# Altium footprint library INDP130130X73M.PcbLib: 1 footprints
Each footprint in its own frame and in the unit in brackets; x right, y up, seen from the top. Pads: shape width x height; smd on the part's side, far side on the other; paste and mask are expansions set on the pad; w line width, h text height; cw(c..) or ccw(c..) is an arc to the next point about the centre after c.
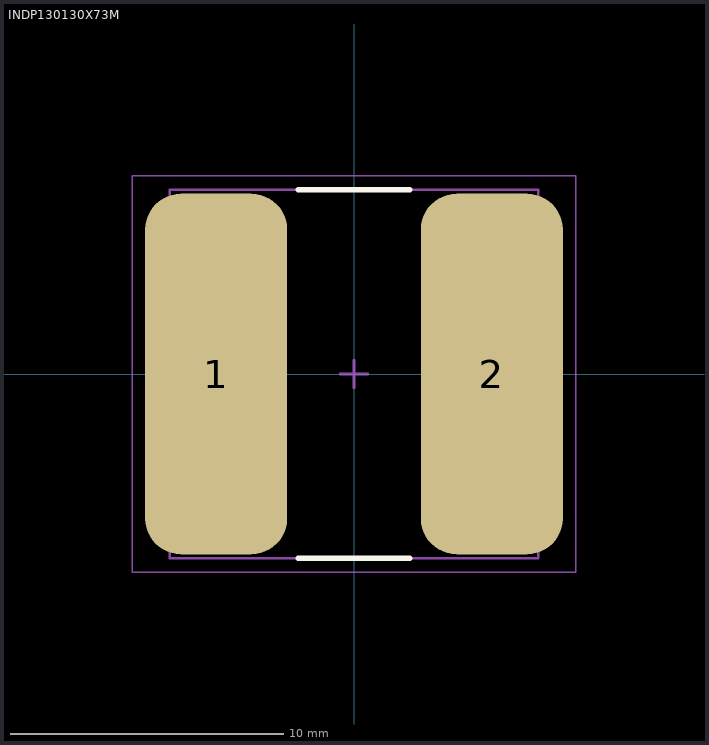
[diagram p0: the footprint, top view; thin cyan lines are the x and y axes]

## INDP130130X73M [mm] "Precision Wire Wound Inductor, 2-Leads, Body 13.00x13.00mm, IPC Low Density"
height 7.3
pads (2):
  rrect50% 5.2x13.2 smd: 1(-5.05,0) 2(5.05,0)
Top Overlay:
  lines w0.2: -2.05,-6.75 2.05,-6.75 ; -2.05,6.75 2.05,6.75
Mechanical 13:
  lines w0.1: -6.75,-6.75 6.75,-6.75 6.75,6.75 -6.75,6.75 -6.75,-6.75
Mechanical 15:
  lines w0.05: -8.125,-7.25 8.125,-7.25 8.125,7.25 -8.125,7.25 -8.125,-7.25
  lines w0.1: -0.5,0 0.5,0 ; 0,-0.5 0,0.5
3D body "sdr1307-180ml.stp": height 7, standoff 0, extent -6.5,-6.5 6.5,6.5